# EAGLE library part 7X1 (library Boards)
7x1 pin board, or unusual shape
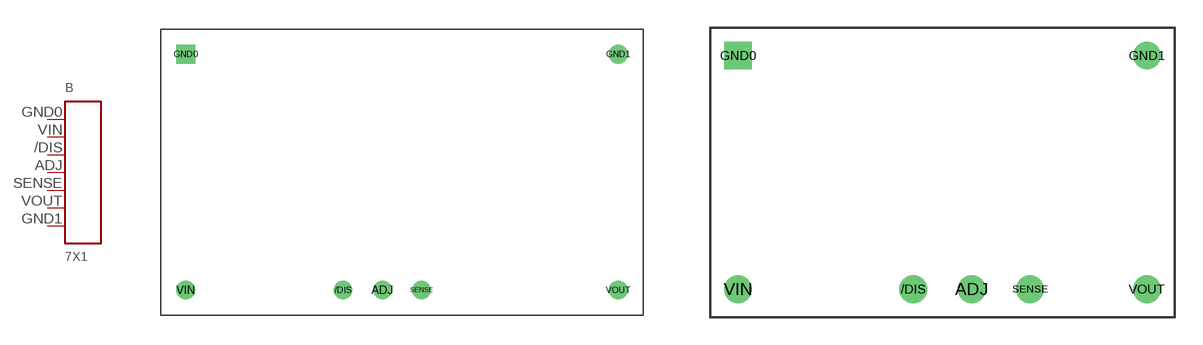
[diagram p1: symbol with the pads of PTN78020; footprints PTN78020, PTN78060]

Designator prefix B

## 7X1PTN78020  [PTN78020]
/DIS  P$3
ADJ  P$4
GND0  P$1
GND1  P$7
SENSE  P$5
VIN  P$2
VOUT  P$6

## 7X1PTN78060  [PTN78060]
Pads as for PTN78020

## 7X1DS1307  [DS1307_BREAKOUT]
BAT  P$1
DS  P$6
DS'  P$6
GND  P$2
GND'  P$2
SCL  P$5
SCL'  P$5
SDA  P$4
SDA'  P$4
SQ  P$7
VCC  P$3
VCC'  P$3

## Footprint PTN78020 (pad centres in mm)
drill 1: /DIS -3.175,0; ADJ 0,0; GND1 19.05,19.05; SENSE 3.175,0; VIN -15.875,0; VOUT 19.05,0
drill 1 square: GND0 -15.875,19.05

## Footprint PTN78060 (pad centres in mm)
drill 1: /DIS -3.175,0; ADJ 0,0; GND1 9.525,12.7; SENSE 3.175,0; VIN -12.7,0; VOUT 9.525,0
drill 1 square: GND0 -12.7,12.7

## Footprint DS1307_BREAKOUT (pad centres in mm)
drill 1: BAT -7.62,0; DS 5.08,0; DS' 3.81,24.13; GND -5.08,0; GND' -6.35,24.13; SCL 2.54,0; SCL' 1.27,24.13; SDA 0,0; SDA' -1.27,24.13; SQ 7.62,0; VCC -2.54,0; VCC' -3.81,24.13